# EAGLE library part GX16-6 (library con-Aviator-GX)
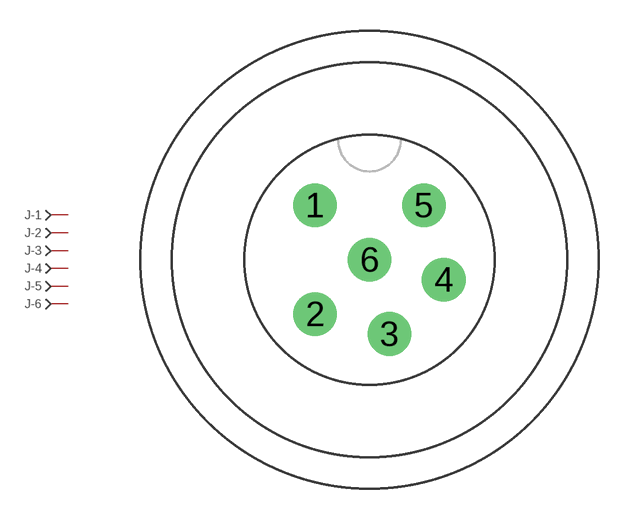
[diagram p0: symbol with the pads of GX6-V; footprint GX6-V]

Designator prefix J; gates -1=PIN -2=PIN -3=PIN -4=PIN -5=PIN -6=PIN

## GX16-6GX16-6  [GX6-V]
1  -1:P
2  -2:P
3  -3:P
4  -4:P
5  -5:P
6  -6:P

## Footprint GX6-V (pad centres in mm)
drill 1.4: 1 -2.616,2.616; 2 -2.616,-2.616; 3 0.958,-3.574; 4 3.574,-0.958; 5 2.616,2.616; 6 0,0